# EAGLE library part HP1_TRAFO (library MDT_TRAFO)
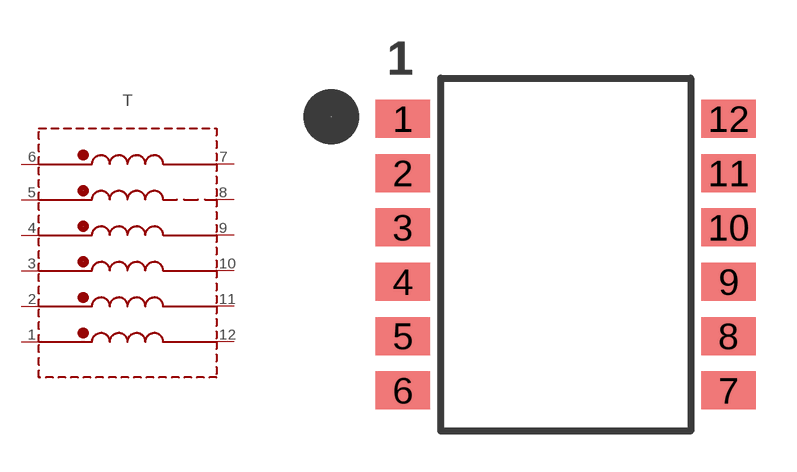
[diagram p2: symbol with the pads of HP1; footprint HP1]

Designator prefix T

## HP1_TRAFO (BOM: INCLUDE; CURRENT: 0.74; ISAT: NOGAP; PARTNO: HP1-1400LB; RATIO: 1:1:1:1:1:1; VENDOR: COILCRAFT)  [HP1]
1  S1  pas
2  S2  pas
3  S3  pas
4  S4  pas
5  S5  pas
6  S6  pas
7  F6  pas
8  F5  pas
9  F4  pas
10  F3  pas
11  F2  pas
12  F1  pas

## Footprint HP1 (pad centres in mm)
smd 2 x 1.4: 1 -6,5; 2 -6,3; 3 -6,1; 4 -6,-1; 5 -6,-3; 6 -6,-5; 7 6,-5; 8 6,-3; 9 6,-1; 10 6,1; 11 6,3; 12 6,5